# EAGLE library part HONEYWELL-HMC5883L (library FaBo-Axis)
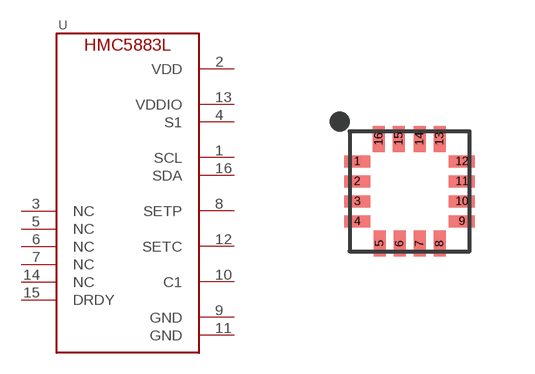
[diagram p14: symbol with the pads of HONEYWELL-HMC5883L; footprint HONEYWELL-HMC5883L]

Designator prefix -

## HONEYWELL-HMC5883L  [HONEYWELL-HMC5883L]
1  SCL
2  VDD
3  NC
4  S1
5  NC
6  NC
7  NC
8  SETP
9  GND
10  C1
11  GND
12  SETC
13  VDDIO
14  NC
15  DRDY
16  SDA

## Footprint HONEYWELL-HMC5883L (pad centres in mm)
smd 0.65 x 0.3: 1 -1.31,0.75; 2 -1.31,0.25; 3 -1.31,-0.25; 4 -1.31,-0.75; 9 1.31,-0.75; 10 1.31,-0.25; 11 1.31,0.25; 12 1.31,0.75
smd 0.3 x 0.65: 5 -0.75,-1.31; 6 -0.25,-1.31; 7 0.25,-1.31; 8 0.75,-1.31; 13 0.75,1.31; 14 0.25,1.31; 15 -0.27,1.31; 16 -0.77,1.31